# Altium footprint library PcbLib1.PcbLib: 2 footprints
Each footprint in its own frame and in the unit in brackets; x right, y up, seen from the top. Pads: shape width x height; smd on the part's side, far side on the other; paste and mask are expansions set on the pad; w line width, h text height; cw(c..) or ccw(c..) is an arc to the next point about the centre after c.
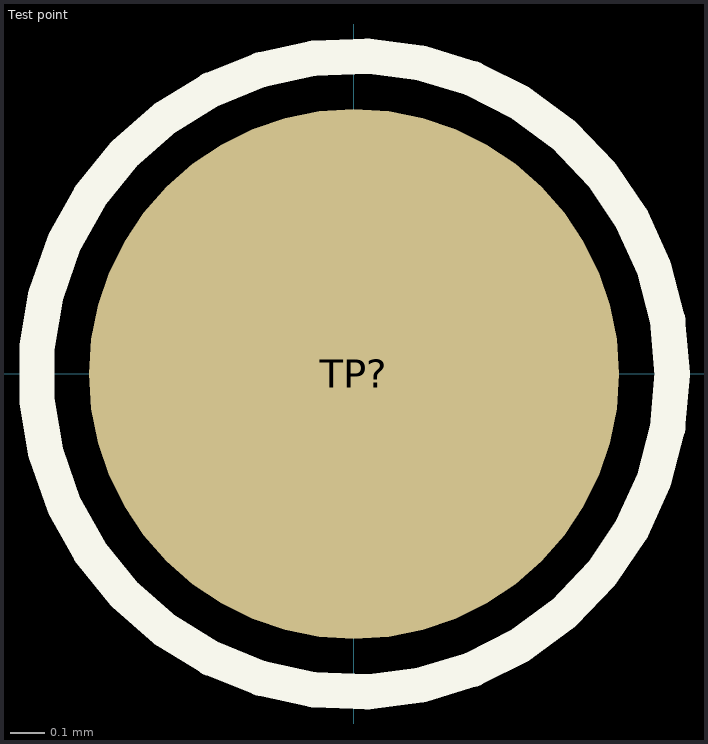
[diagram p0: the footprints below, top view; thin cyan lines are the x and y axes]

## PCBComponent_1 [mil]

## Test point [mil]
height 2
pads (1):
  round 60 smd: TP?(0,0)
Top Overlay:
  circle w4: c0,0 r36
3D body: height 2, standoff 0, extent -30,-30 30,30